# Altium footprint library QFN50P600X600X100-37N-D.PcbLib: 1 footprints
Each footprint in its own frame and in the unit in brackets; x right, y up, seen from the top. Pads: shape width x height; smd on the part's side, far side on the other; paste and mask are expansions set on the pad; w line width, h text height; cw(c..) or ccw(c..) is an arc to the next point about the centre after c.
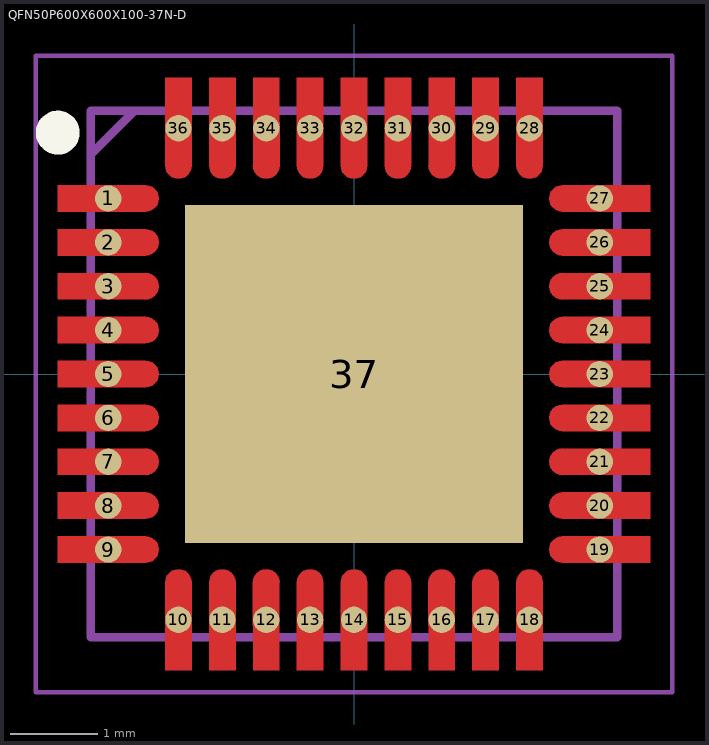
[diagram p0: the footprint, top view; thin cyan lines are the x and y axes]

## QFN50P600X600X100-37N-D [mm]
pads (37):
  round 0.3 smd: 1(-2.8,2) 2(-2.8,1.5) 3(-2.8,1) 4(-2.8,0.5) 5(-2.8,0) 6(-2.8,-0.5) 7(-2.8,-1) 8(-2.8,-1.5) 9(-2.8,-2) 10(-2,-2.8) 11(-1.5,-2.8) 12(-1,-2.8) 13(-0.5,-2.8) 14(0,-2.8) 15(0.5,-2.8) 16(1,-2.8) 17(1.5,-2.8) 18(2,-2.8) 19(2.8,-2) 20(2.8,-1.5) 21(2.8,-1) 22(2.8,-0.5) 23(2.8,0) 24(2.8,0.5) 25(2.8,1) 26(2.8,1.5) 27(2.8,2) 28(2,2.8) 29(1.5,2.8) 30(1,2.8) 31(0.5,2.8) 32(0,2.8) 33(-0.5,2.8) 34(-1,2.8) 35(-1.5,2.8) 36(-2,2.8)
  rrect0% 3.85x3.85 smd: 37(0,0)
L1-Top Layer:
  region: -1.85,3.375 -1.849,2.375 -1.854,2.336 -1.869,2.299 -1.893,2.268 -1.924,2.244 -1.961,2.229 -2,2.224 -2.039,2.229 -2.076,2.244 -2.107,2.268 -2.131,2.299 -2.146,2.336 -2.151,2.375 -2.15,2.375 -2.15,3.375
  region: -1.35,3.375 -1.349,2.375 -1.354,2.336 -1.369,2.299 -1.393,2.268 -1.424,2.244 -1.461,2.229 -1.5,2.224 -1.539,2.229 -1.576,2.244 -1.607,2.268 -1.631,2.299 -1.646,2.336 -1.651,2.375 -1.65,2.375 -1.65,3.375
  region: -0.85,3.375 -0.849,2.375 -0.854,2.336 -0.869,2.299 -0.893,2.268 -0.924,2.244 -0.961,2.229 -1,2.224 -1.039,2.229 -1.076,2.244 -1.107,2.268 -1.131,2.299 -1.146,2.336 -1.151,2.375 -1.15,2.375 -1.15,3.375
  region: -0.35,3.375 -0.349,2.375 -0.354,2.336 -0.369,2.299 -0.393,2.268 -0.424,2.244 -0.461,2.229 -0.5,2.224 -0.539,2.229 -0.576,2.244 -0.607,2.268 -0.631,2.299 -0.646,2.336 -0.651,2.375 -0.65,2.375 -0.65,3.375
  region: 0.15,3.375 0.151,2.375 0.146,2.336 0.131,2.299 0.107,2.268 0.076,2.244 0.039,2.229 0,2.224 -0.039,2.229 -0.076,2.244 -0.107,2.268 -0.131,2.299 -0.146,2.336 -0.151,2.375 -0.15,2.375 -0.15,3.375
  region: 0.65,3.375 0.651,2.375 0.646,2.336 0.631,2.299 0.607,2.268 0.576,2.244 0.539,2.229 0.5,2.224 0.461,2.229 0.424,2.244 0.393,2.268 0.369,2.299 0.354,2.336 0.349,2.375 0.35,2.375 0.35,3.375
  region: 1.15,3.375 1.151,2.375 1.146,2.336 1.131,2.299 1.107,2.268 1.076,2.244 1.039,2.229 1,2.224 0.961,2.229 0.924,2.244 0.893,2.268 0.869,2.299 0.854,2.336 0.849,2.375 0.85,2.375 0.85,3.375
  region: 1.65,3.375 1.651,2.375 1.646,2.336 1.631,2.299 1.607,2.268 1.576,2.244 1.539,2.229 1.5,2.224 1.461,2.229 1.424,2.244 1.393,2.268 1.369,2.299 1.354,2.336 1.349,2.375 1.35,2.375 1.35,3.375
  region: 2.15,3.375 2.151,2.375 2.146,2.336 2.131,2.299 2.107,2.268 2.076,2.244 2.039,2.229 2,2.224 1.961,2.229 1.924,2.244 1.893,2.268 1.869,2.299 1.854,2.336 1.849,2.375 1.85,2.375 1.85,3.375
  region: 3.375,1.85 2.375,1.849 2.336,1.854 2.299,1.869 2.268,1.893 2.244,1.924 2.229,1.961 2.224,2 2.229,2.039 2.244,2.076 2.268,2.107 2.299,2.131 2.336,2.146 2.375,2.151 2.375,2.15 3.375,2.15
  region: 3.375,1.35 2.375,1.349 2.336,1.354 2.299,1.369 2.268,1.393 2.244,1.424 2.229,1.461 2.224,1.5 2.229,1.539 2.244,1.576 2.268,1.607 2.299,1.631 2.336,1.646 2.375,1.651 2.375,1.65 3.375,1.65
  region: 3.375,0.85 2.375,0.849 2.336,0.854 2.299,0.869 2.268,0.893 2.244,0.924 2.229,0.961 2.224,1 2.229,1.039 2.244,1.076 2.268,1.107 2.299,1.131 2.336,1.146 2.375,1.151 2.375,1.15 3.375,1.15
  region: 3.375,0.35 2.375,0.349 2.336,0.354 2.299,0.369 2.268,0.393 2.244,0.424 2.229,0.461 2.224,0.5 2.229,0.539 2.244,0.576 2.268,0.607 2.299,0.631 2.336,0.646 2.375,0.651 2.375,0.65 3.375,0.65
  region: 3.375,-0.15 2.375,-0.151 2.336,-0.146 2.299,-0.131 2.268,-0.107 2.244,-0.076 2.229,-0.039 2.224,0 2.229,0.039 2.244,0.076 2.268,0.107 2.299,0.131 2.336,0.146 2.375,0.151 2.375,0.15 3.375,0.15
  region: 3.375,-0.65 2.375,-0.651 2.336,-0.646 2.299,-0.631 2.268,-0.607 2.244,-0.576 2.229,-0.539 2.224,-0.5 2.229,-0.461 2.244,-0.424 2.268,-0.393 2.299,-0.369 2.336,-0.354 2.375,-0.349 2.375,-0.35 3.375,-0.35
  region: 3.375,-1.15 2.375,-1.151 2.336,-1.146 2.299,-1.131 2.268,-1.107 2.244,-1.076 2.229,-1.039 2.224,-1 2.229,-0.961 2.244,-0.924 2.268,-0.893 2.299,-0.869 2.336,-0.854 2.375,-0.849 2.375,-0.85 3.375,-0.85
  region: 3.375,-1.65 2.375,-1.651 2.336,-1.646 2.299,-1.631 2.268,-1.607 2.244,-1.576 2.229,-1.539 2.224,-1.5 2.229,-1.461 2.244,-1.424 2.268,-1.393 2.299,-1.369 2.336,-1.354 2.375,-1.349 2.375,-1.35 3.375,-1.35
  region: 3.375,-2.15 2.375,-2.151 2.336,-2.146 2.299,-2.131 2.268,-2.107 2.244,-2.076 2.229,-2.039 2.224,-2 2.229,-1.961 2.244,-1.924 2.268,-1.893 2.299,-1.869 2.336,-1.854 2.375,-1.849 2.375,-1.85 3.375,-1.85
  region: 1.85,-3.375 1.849,-2.375 1.854,-2.336 1.869,-2.299 1.893,-2.268 1.924,-2.244 1.961,-2.229 2,-2.224 2.039,-2.229 2.076,-2.244 2.107,-2.268 2.131,-2.299 2.146,-2.336 2.151,-2.375 2.15,-2.375 2.15,-3.375
  region: 1.35,-3.375 1.349,-2.375 1.354,-2.336 1.369,-2.299 1.393,-2.268 1.424,-2.244 1.461,-2.229 1.5,-2.224 1.539,-2.229 1.576,-2.244 1.607,-2.268 1.631,-2.299 1.646,-2.336 1.651,-2.375 1.65,-2.375 1.65,-3.375
  region: 0.85,-3.375 0.849,-2.375 0.854,-2.336 0.869,-2.299 0.893,-2.268 0.924,-2.244 0.961,-2.229 1,-2.224 1.039,-2.229 1.076,-2.244 1.107,-2.268 1.131,-2.299 1.146,-2.336 1.151,-2.375 1.15,-2.375 1.15,-3.375
  region: 0.35,-3.375 0.349,-2.375 0.354,-2.336 0.369,-2.299 0.393,-2.268 0.424,-2.244 0.461,-2.229 0.5,-2.224 0.539,-2.229 0.576,-2.244 0.607,-2.268 0.631,-2.299 0.646,-2.336 0.651,-2.375 0.65,-2.375 0.65,-3.375
  region: -0.15,-3.375 -0.151,-2.375 -0.146,-2.336 -0.131,-2.299 -0.107,-2.268 -0.076,-2.244 -0.039,-2.229 0,-2.224 0.039,-2.229 0.076,-2.244 0.107,-2.268 0.131,-2.299 0.146,-2.336 0.151,-2.375 0.15,-2.375 0.15,-3.375
  region: -0.65,-3.375 -0.651,-2.375 -0.646,-2.336 -0.631,-2.299 -0.607,-2.268 -0.576,-2.244 -0.539,-2.229 -0.5,-2.224 -0.461,-2.229 -0.424,-2.244 -0.393,-2.268 -0.369,-2.299 -0.354,-2.336 -0.349,-2.375 -0.35,-2.375 -0.35,-3.375
  region: -1.15,-3.375 -1.151,-2.375 -1.146,-2.336 -1.131,-2.299 -1.107,-2.268 -1.076,-2.244 -1.039,-2.229 -1,-2.224 -0.961,-2.229 -0.924,-2.244 -0.893,-2.268 -0.869,-2.299 -0.854,-2.336 -0.849,-2.375 -0.85,-2.375 -0.85,-3.375
  region: -1.65,-3.375 -1.651,-2.375 -1.646,-2.336 -1.631,-2.299 -1.607,-2.268 -1.576,-2.244 -1.539,-2.229 -1.5,-2.224 -1.461,-2.229 -1.424,-2.244 -1.393,-2.268 -1.369,-2.299 -1.354,-2.336 -1.349,-2.375 -1.35,-2.375 -1.35,-3.375
  region: -2.15,-3.375 -2.151,-2.375 -2.146,-2.336 -2.131,-2.299 -2.107,-2.268 -2.076,-2.244 -2.039,-2.229 -2,-2.224 -1.961,-2.229 -1.924,-2.244 -1.893,-2.268 -1.869,-2.299 -1.854,-2.336 -1.849,-2.375 -1.85,-2.375 -1.85,-3.375
  region: -3.375,-1.85 -2.375,-1.849 -2.336,-1.854 -2.299,-1.869 -2.268,-1.893 -2.244,-1.924 -2.229,-1.961 -2.224,-2 -2.229,-2.039 -2.244,-2.076 -2.268,-2.107 -2.299,-2.131 -2.336,-2.146 -2.375,-2.151 -2.375,-2.15 -3.375,-2.15
  region: -3.375,-1.35 -2.375,-1.349 -2.336,-1.354 -2.299,-1.369 -2.268,-1.393 -2.244,-1.424 -2.229,-1.461 -2.224,-1.5 -2.229,-1.539 -2.244,-1.576 -2.268,-1.607 -2.299,-1.631 -2.336,-1.646 -2.375,-1.651 -2.375,-1.65 -3.375,-1.65
  region: -3.375,-0.85 -2.375,-0.849 -2.336,-0.854 -2.299,-0.869 -2.268,-0.893 -2.244,-0.924 -2.229,-0.961 -2.224,-1 -2.229,-1.039 -2.244,-1.076 -2.268,-1.107 -2.299,-1.131 -2.336,-1.146 -2.375,-1.151 -2.375,-1.15 -3.375,-1.15
  region: -3.375,-0.35 -2.375,-0.349 -2.336,-0.354 -2.299,-0.369 -2.268,-0.393 -2.244,-0.424 -2.229,-0.461 -2.224,-0.5 -2.229,-0.539 -2.244,-0.576 -2.268,-0.607 -2.299,-0.631 -2.336,-0.646 -2.375,-0.651 -2.375,-0.65 -3.375,-0.65
  region: -3.375,0.15 -2.375,0.151 -2.336,0.146 -2.299,0.131 -2.268,0.107 -2.244,0.076 -2.229,0.039 -2.224,0 -2.229,-0.039 -2.244,-0.076 -2.268,-0.107 -2.299,-0.131 -2.336,-0.146 -2.375,-0.151 -2.375,-0.15 -3.375,-0.15
  region: -3.375,0.65 -2.375,0.651 -2.336,0.646 -2.299,0.631 -2.268,0.607 -2.244,0.576 -2.229,0.539 -2.224,0.5 -2.229,0.461 -2.244,0.424 -2.268,0.393 -2.299,0.369 -2.336,0.354 -2.375,0.349 -2.375,0.35 -3.375,0.35
  region: -3.375,1.15 -2.375,1.151 -2.336,1.146 -2.299,1.131 -2.268,1.107 -2.244,1.076 -2.229,1.039 -2.224,1 -2.229,0.961 -2.244,0.924 -2.268,0.893 -2.299,0.869 -2.336,0.854 -2.375,0.849 -2.375,0.85 -3.375,0.85
  region: -3.375,1.65 -2.375,1.651 -2.336,1.646 -2.299,1.631 -2.268,1.607 -2.244,1.576 -2.229,1.539 -2.224,1.5 -2.229,1.461 -2.244,1.424 -2.268,1.393 -2.299,1.369 -2.336,1.354 -2.375,1.349 -2.375,1.35 -3.375,1.35
  region: -3.375,2.15 -2.375,2.151 -2.336,2.146 -2.299,2.131 -2.268,2.107 -2.244,2.076 -2.229,2.039 -2.224,2 -2.229,1.961 -2.244,1.924 -2.268,1.893 -2.299,1.869 -2.336,1.854 -2.375,1.849 -2.375,1.85 -3.375,1.85
Top Overlay:
  circle w0.25: c-3.375,2.75 r0.125
Mechanical 15:
  lines w0.1: -3,2.5 -2.5,3 ; -3,-3 -3,3 3,3 3,-3 -3,-3
Mechanical 20:
  lines w0.05: -3.625,-3.625 -3.625,3.625 3.625,3.625 3.625,-3.625 -3.625,-3.625
3D body "USB2514B-I_M2.stp": height 1, standoff 0, extent -3.05,-3.05 3.05,3.05